# Altium footprint library praline.PcbLib: 57 footprints (part 2 of 4)
Each footprint in its own frame and in the unit in brackets; x right, y up, seen from the top. Pads: shape width x height; smd on the part's side, far side on the other; paste and mask are expansions set on the pad; w line width, h text height; cw(c..) or ccw(c..) is an arc to the next point about the centre after c.
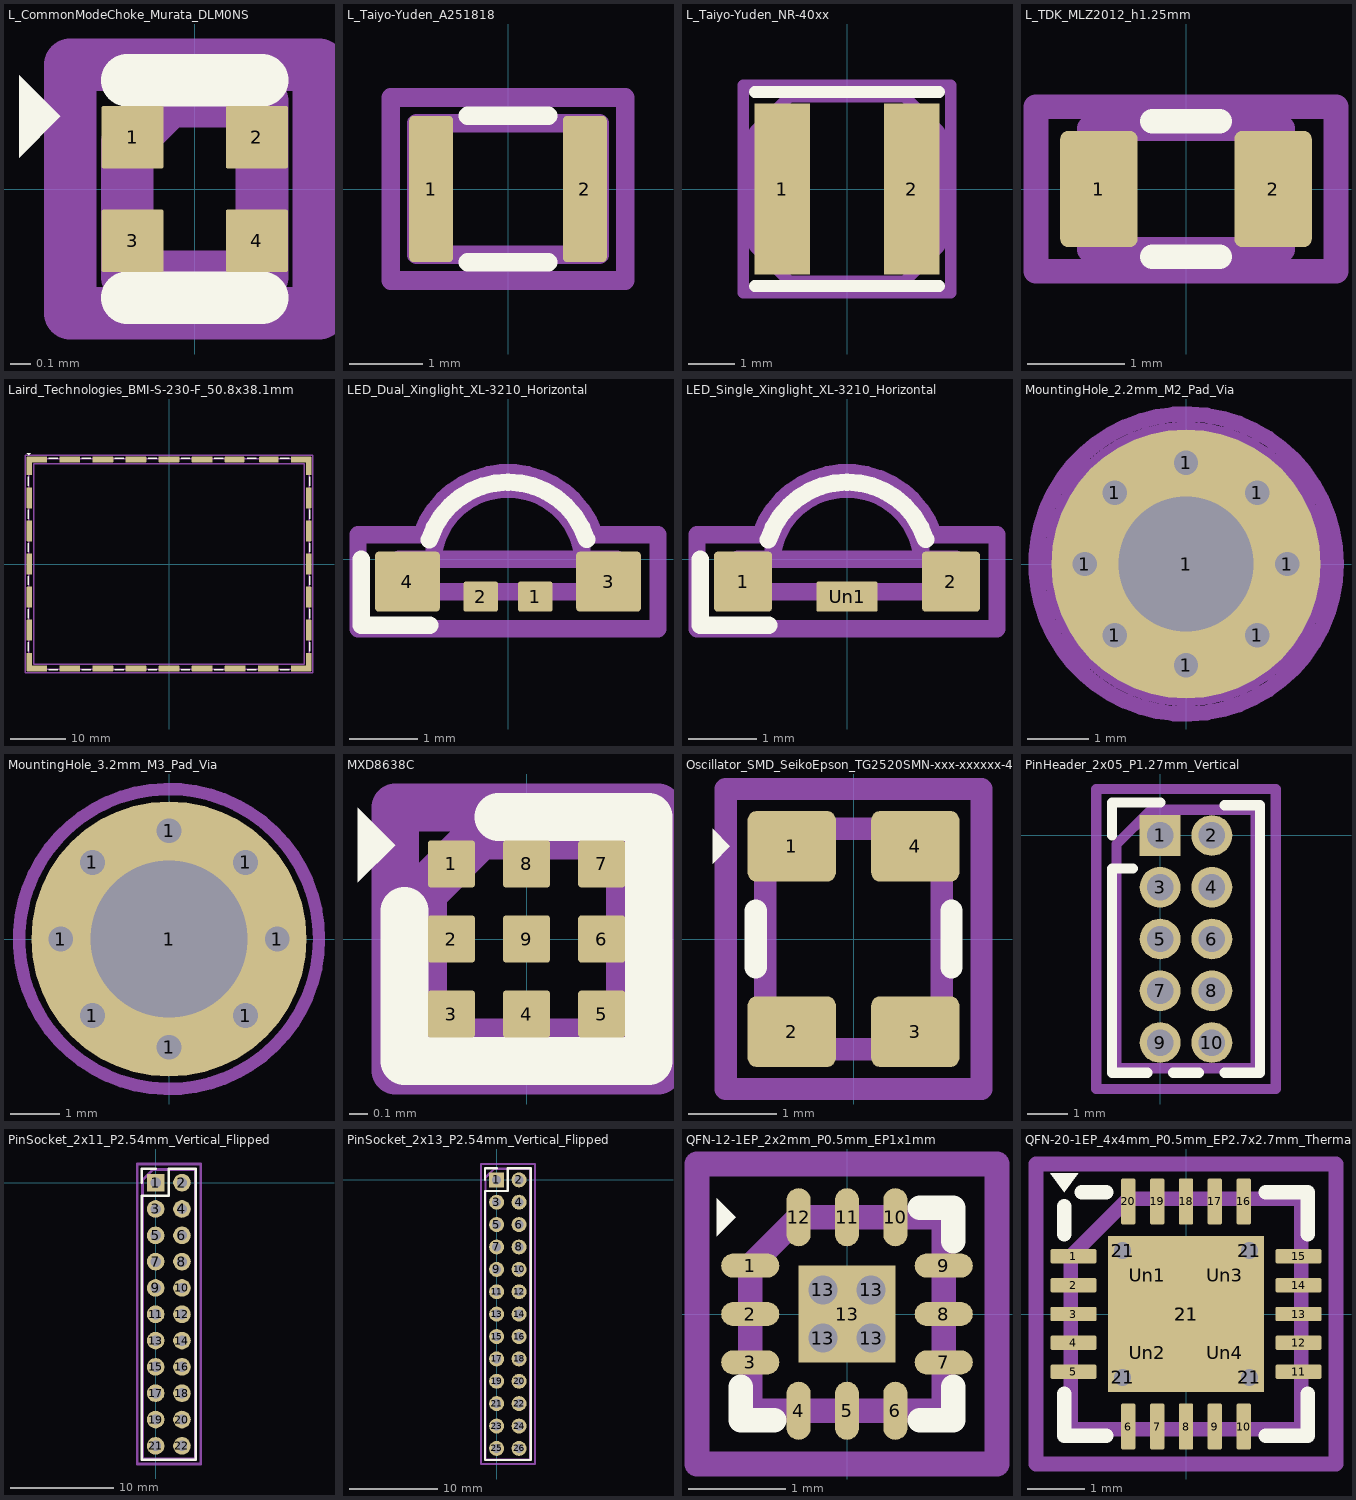
[diagram p1: the footprints below, top view; thin cyan lines are the x and y axes]

## L_CommonModeChoke_Murata_DLM0NS [mm]
pads (4):
  rrect5% 0.3x0.3 smd mask+0.05: 1(-0.3,0.25) 2(0.3,0.25) 3(-0.3,-0.25) 4(0.3,-0.25)
Top Overlay:
  region: -0.65,0.35 -0.848,0.152 -0.848,0.548
  lines w0.254: -0.325,-0.525 0.325,-0.525 ; -0.325,0.525 0.325,0.525
Mechanical 6:
  lines w0.254: -0.325,-0.425 -0.325,0.225 -0.125,0.425 0.325,0.425 0.325,-0.425 -0.325,-0.425
  text "'.Designator'" at -0.663,-0.317 h0.5
Mechanical 15:
  lines w0.254: -0.6,-0.6 0.6,-0.6 0.6,0.6 -0.6,0.6 -0.6,-0.6

## L_Taiyo-Yuden_A251818 [mm]
pads (2):
  rrect20% 0.6x2 smd mask+0.05: 1(-1.05,0) 2(1.05,0)
Top Overlay:
  lines w0.254: -0.55,-1 0.55,-1 ; -0.55,1 0.55,1
Mechanical 6:
  lines w0.254: -1.25,-0.9 1.25,-0.9 1.25,0.9 -1.25,0.9 -1.25,-0.9
  text "'.Designator'" at -0.39,-0.171 h0.62
Mechanical 15:
  lines w0.254: -1.6,-1.25 1.6,-1.25 1.6,1.25 -1.6,1.25 -1.6,-1.25

## L_Taiyo-Yuden_NR-40xx [mm]
pads (2):
  rect 1.2x3.7 smd mask+0.05: 1(-1.4,0) 2(1.4,0)
Top Overlay:
  lines w0.254: -2,-2.1 2,-2.1 ; -2,2.1 2,2.1
Mechanical 6:
  lines w0.254: -2,-1.25 -1.25,-2 1.25,-2 2,-1.25 2,1.25 1.25,2 -1.25,2 -2,1.25 -2,-1.25
  text "'.Designator'" at 0.628,0.273 h1
Mechanical 15:
  lines w0.254: -2.25,-2.25 2.25,-2.25 2.25,2.25 -2.25,2.25 -2.25,-2.25

## L_TDK_MLZ2012_h1.25mm [mm]
pads (2):
  rrect20% 0.8x1.2 smd mask+0.05: 1(-0.9,0) 2(0.9,0)
Top Overlay:
  lines w0.254: -0.35,-0.7 0.35,-0.7 ; -0.35,0.7 0.35,0.7
Mechanical 6:
  lines w0.254: -1,-0.625 1,-0.625 1,0.625 -1,0.625 -1,-0.625
  text "'.Designator'" at 0.195,0.138 h0.5
Mechanical 15:
  lines w0.254: -1.55,-0.85 1.55,-0.85 1.55,0.85 -1.55,0.85 -1.55,-0.85

## Laird_Technologies_BMI-S-230-F_50.8x38.1mm [mm]
pads (32):
  rrect12% 1x3.35 smd mask+0.05: 1(-25.3,-17.775) 1(-25.3,17.775) 1(25.3,-17.775) 1(25.3,17.775)
  rrect12% 1x3.8 smd mask+0.05: 1(-25.3,-12) 1(-25.3,-6) 1(-25.3,0) 1(-25.3,6) 1(-25.3,12) 1(25.3,-12) 1(25.3,-6) 1(25.3,0) 1(25.3,6) 1(25.3,12)
  rrect12% 3.7x1 smd mask+0.05: 1(-23.95,-18.95) 1(-23.95,18.95) 1(23.95,-18.95) 1(23.95,18.95)
  rrect12% 3.8x1 smd mask+0.05: 1(-18,-18.95) 1(-18,18.95) 1(-12,-18.95) 1(-12,18.95) 1(-6,-18.95) 1(-6,18.95) 1(0,-18.95) 1(0,18.95) 1(6,-18.95) 1(6,18.95) 1(12,-18.95) 1(18,-18.95)
  rrect12% 3.55x1 smd mask+0.05: 1(11.875,18.95) 1(18.125,18.95)
Top Overlay:
  region: -25.4,19.7 -25.754,20.054 -25.046,20.054
  lines w0.254: -25.55,-15.8 -25.55,-14.2 ; -25.55,-9.8 -25.55,-8.2 ; -25.55,-3.8 -25.55,-2.2 ; -25.55,2.2 -25.55,3.8 ; -25.55,8.2 -25.55,9.8 ; -25.55,14.2 -25.55,15.8 ; -21.8,-19.2 -20.2,-19.2 ; -21.8,19.2 -20.2,19.2 ; -15.8,-19.2 -14.2,-19.2 ; -15.8,19.2 -14.2,19.2 ; -9.8,-19.2 -8.2,-19.2 ; -9.8,19.2 -8.2,19.2 ; -3.8,-19.2 -2.2,-19.2 ; -3.8,19.2 -2.2,19.2 ; 2.2,-19.2 3.8,-19.2 ; 2.2,19.2 3.8,19.2 ; 8.2,-19.2 9.8,-19.2 ; 8.2,19.2 9.8,19.2 ; 14.2,-19.2 15.8,-19.2 ; 14.2,19.2 15.8,19.2 ; 20.2,-19.2 21.8,-19.2 ; 20.2,19.2 21.8,19.2 ; 25.55,-15.8 25.55,-14.2 ; 25.55,-9.8 25.55,-8.2 ; 25.55,-3.8 25.55,-2.2 ; 25.55,2.2 25.55,3.8 ; 25.55,8.2 25.55,9.8 ; 25.55,14.2 25.55,15.8
Mechanical 6:
  lines w0.254: -25.4,-19.05 -25.4,18.05 -24.4,19.05 25.4,19.05 25.4,-19.05 -25.4,-19.05
  text "'.Designator'" at -23.601,16.77 h1
Mechanical 15:
  lines w0.254: -26.05,-19.7 -26.05,19.7 26.05,19.7 26.05,-19.7 -26.05,-19.7 ; -24.55,-18.2 -24.55,18.2 24.55,18.2 24.55,-18.2 -24.55,-18.2

## LED_Dual_Xinglight_XL-3210_Horizontal [mm]
pads (4):
  rrect12% 0.5x0.44 smd mask+0.05: 1(0.4,-0.55) 2(-0.4,-0.55)
  rrect12% 0.95x0.88 smd mask+0.05: 3(1.475,-0.33) 4(-1.475,-0.33)
Top Overlay:
  lines w0.254: -2.15,0 -2.15,-0.97 -1.15,-0.97 ; -1.153,0.287 cw(c0,-0.08) 1.153,0.288
Mechanical 6:
  lines w0.254: -1.6,-0.13 -1.25,-0.48 ; -1.103,0 cw(c0,-0.08) 1.103,0 ; -1.6,-0.48 -1.6,0 1.6,0 1.6,-0.48 -1.6,-0.48
  text "'.Designator'" at -0.168,0.241 h0.4
Mechanical 15:
  lines w0.254: -2.2,-1.02 2.2,-1.02 2.2,0.36 1.27,0.36 ccw(c0,-0.071) -1.27,0.36 -2.2,0.36 -2.2,-1.02

## LED_Single_Xinglight_XL-3210_Horizontal [mm]
pads (3):
  rrect12% 0.85x0.88 smd mask+0.05: 1(-1.525,-0.33) 2(1.525,-0.33)
  rrect12% 0.9x0.44 smd mask+0.05: Un1(0,-0.55)
Top Overlay:
  lines w0.254: -2.15,0 -2.15,-0.97 -1.15,-0.97 ; -1.153,0.287 cw(c0,-0.08) 1.153,0.288
Mechanical 6:
  lines w0.254: -1.6,-0.13 -1.25,-0.48 ; -1.103,0 cw(c0,-0.08) 1.103,0 ; -1.6,-0.48 -1.6,0 1.6,0 1.6,-0.48 -1.6,-0.48
  text "'.Designator'" at -0.169,0.24 h0.4
Mechanical 15:
  lines w0.254: -2.2,-1.02 2.2,-1.02 2.2,0.36 1.27,0.36 ccw(c0,-0.071) -1.27,0.36 -2.2,0.36 -2.2,-1.02

## MountingHole_2.2mm_M2_Pad_Via [mm]
pads (9):
  round 0.7 hole 0.4 mask+0.05: 1(-1.65,0) 1(-1.167,-1.167) 1(-1.167,1.167) 1(0,-1.65) 1(0,1.65) 1(1.167,-1.167) 1(1.167,1.167) 1(1.65,0)
  round 4.4 hole 2.2 mask+0.05: 1(0,0)
Mechanical 6:
  text "'.Designator'" at -0.425,-0.276 h1
Mechanical 9:
  circle w0.254: c0,0 r2.2
Mechanical 15:
  circle w0.254: c0,0 r2.45

## MountingHole_3.2mm_M3_Pad_Via [mm]
pads (9):
  round 0.8 hole 0.5 mask+0.05: 1(-2.2,0) 1(-1.556,-1.556) 1(-1.556,1.556) 1(0,-2.2) 1(0,2.2) 1(1.556,-1.556) 1(1.556,1.556) 1(2.2,0)
  round 5.6 hole 3.2 mask+0.05: 1(0,0)
Mechanical 6:
  text "'.Designator'" at -0.419,-0.273 h1
Mechanical 15:
  circle w0.254: c0,0 r3.05

## MXD8638C [mm]
pads (9):
  rrect12% 0.25x0.25 smd mask+0.05: 1(-0.4,0.4) 2(-0.4,0) 3(-0.4,-0.4) 4(0,-0.4) 5(0.4,-0.4) 6(0.4,0) 7(0.4,0.4) 8(0,0.4) 9(0,0)
Top Overlay:
  region: -0.7,0.5 -0.898,0.302 -0.898,0.698
  lines w0.254: -0.65,0.15 -0.65,-0.65 0.65,-0.65 0.65,0.65 -0.15,0.65
Mechanical 6:
  lines w0.254: -0.55,-0.55 -0.55,0.25 -0.25,0.55 0.55,0.55 0.55,-0.55 -0.55,-0.55
  text "'.Designator'" at 0.069,-0.168 h0.25
Mechanical 15:
  lines w0.254: -0.7,-0.7 -0.7,0.7 0.7,0.7 0.7,-0.7 -0.7,-0.7

## Oscillator_SMD_SeikoEpson_TG2520SMN-xxx-xxxxxx-4Pin_2.5x2.0mm [mm]
pads (4):
  rrect25% 1x0.8 smd mask+0.05: 1(-0.7,1.05) 2(-0.7,-1.05) 3(0.7,-1.05) 4(0.7,1.05)
Top Overlay:
  region: -1.4,1.05 -1.598,0.852 -1.598,1.248
  lines w0.254: -1.11,-0.32 -1.11,0.32 ; 1.11,-0.32 1.11,0.32
Mechanical 6:
  lines w0.254: -1,-1.25 -1,0.75 -0.5,1.25 1,1.25 1,-1.25 -1,-1.25
  text "'.Designator'" at -0.137,0.219 h0.5
Mechanical 15:
  lines w0.254: -1.45,-1.7 -1.45,1.7 1.45,1.7 1.45,-1.7 -1.45,-1.7

## PinHeader_2x05_P1.27mm_Vertical [mm]
pads (10):
  rect 1x1 hole 0.65 mask+0.05: 1(0,0)
  round 1 hole 0.65 mask+0.05: 2(1.27,0) 3(0,-1.27) 4(1.27,-1.27) 5(0,-2.54) 6(1.27,-2.54) 7(0,-3.81) 8(1.27,-3.81) 9(0,-5.08) 10(1.27,-5.08)
Top Overlay:
  lines w0.254: -1.18,0 -1.18,0.81 0,0.81 ; -0.667,-0.81 -1.18,-0.81 -1.18,-5.825 -0.318,-5.825 ; 0.318,-5.825 0.952,-5.825 ; 1.588,-5.825 2.45,-5.825 2.45,0.745 1.588,0.745
Mechanical 6:
  lines w0.254: -1.07,-5.715 -1.07,-0.218 -0.218,0.635 2.34,0.635 2.34,-5.715 -1.07,-5.715
  text "'.Designator'" at 0.915,-3.189 h1
Mechanical 15:
  lines w0.254: -1.57,-6.22 -1.57,1.14 2.84,1.14 2.84,-6.22 -1.57,-6.22

## PinSocket_2x11_P2.54mm_Vertical_Flipped [mm]
pads (22):
  rect 1.7x1.7 hole 1 mask+0.05: 1(0,0)
  round 1.7 hole 1 mask+0.05: 2(2.54,0) 3(0,-2.54) 4(2.54,-2.54) 5(0,-5.08) 6(2.54,-5.08) 7(0,-7.62) 8(2.54,-7.62) 9(0,-10.16) 10(2.54,-10.16) 11(0,-12.7) 12(2.54,-12.7) 13(0,-15.24) 14(2.54,-15.24) 15(0,-17.78) 16(2.54,-17.78) 17(0,-20.32) 18(2.54,-20.32) 19(0,-22.86) 20(2.54,-22.86) 21(0,-25.4) 22(2.54,-25.4)
Top Overlay:
  lines w0.254: -1.33,0 -1.33,1.33 0,1.33 ; -1.33,-26.73 3.87,-26.73 3.87,1.33 1.27,1.33 1.27,-1.27 -1.33,-1.27 -1.33,-26.73
Mechanical 6:
  lines w0.254: -1.27,-26.67 3.81,-26.67 3.81,1.27 -0.27,1.27 -1.27,0.27 -1.27,-26.67
  text "'.Designator'" at 0.99,-12.054 h1
Mechanical 15:
  lines w0.254: -1.76,-27.15 4.34,-27.15 4.34,1.8 -1.76,1.8 -1.76,-27.15

## PinSocket_2x13_P2.54mm_Vertical_Flipped [mm]
pads (26):
  rect 1.7x1.7 hole 1 mask+0.05: 1(0,0)
  round 1.7 hole 1 mask+0.05: 2(2.54,0) 3(0,-2.54) 4(2.54,-2.54) 5(0,-5.08) 6(2.54,-5.08) 7(0,-7.62) 8(2.54,-7.62) 9(0,-10.16) 10(2.54,-10.16) 11(0,-12.7) 12(2.54,-12.7) 13(0,-15.24) 14(2.54,-15.24) 15(0,-17.78) 16(2.54,-17.78) 17(0,-20.32) 18(2.54,-20.32) 19(0,-22.86) 20(2.54,-22.86) 21(0,-25.4) 22(2.54,-25.4) 23(0,-27.94) 24(2.54,-27.94) 25(0,-30.48) 26(2.54,-30.48)
Top Overlay:
  lines w0.254: -1.33,0 -1.33,1.33 0,1.33 ; -1.33,-31.81 3.87,-31.81 3.87,1.33 1.27,1.33 1.27,-1.27 -1.33,-1.27 -1.33,-31.81
Mechanical 6:
  lines w0.254: -1.27,-31.75 3.81,-31.75 3.81,1.27 -0.27,1.27 -1.27,0.27 -1.27,-31.75
  text "'.Designator'" at 1.546,-15.886 h1
Mechanical 15:
  lines w0.254: -1.76,-32.25 -1.76,1.8 4.34,1.8 4.34,-32.25 -1.76,-32.25

## QFN-12-1EP_2x2mm_P0.5mm_EP1x1mm [mm]
pads (17):
  rrect100% 0.6x0.25 smd mask+0.05: 1(-1,0.5) 2(-1,0) 3(-1,-0.5) 7(1,-0.5) 8(1,0) 9(1,0.5)
  rrect100% 0.25x0.6 smd mask+0.05: 4(-0.5,-1) 5(0,-1) 6(0.5,-1) 10(0.5,1) 11(0,1) 12(-0.5,1)
  round 0.4 hole 0.3 mask+0.05: 13(-0.25,-0.25) 13(-0.25,0.25) 13(0.25,-0.25) 13(0.25,0.25)
  rect 1x1 smd mask+0.05: 13(0,0)
Top Overlay:
  region: -1.15,1 -1.348,0.802 -1.348,1.198
  lines w0.254: -1.1,-0.75 -1.1,-1.1 -0.75,-1.1 ; 0.75,-1.1 1.1,-1.1 1.1,-0.75 ; 0.75,1.1 1.1,1.1 1.1,0.75
Mechanical 6:
  lines w0.254: -1,-1 1,-1 1,1 -0.5,1 -1,0.5 -1,-1
  text "'.Designator'" at -0.14,0.211 h0.5
Mechanical 15:
  lines w0.254: -1.55,-1.55 -1.55,1.55 1.55,1.55 1.55,-1.55 -1.55,-1.55

## QFN-20-1EP_4x4mm_P0.5mm_EP2.7x2.7mm_ThermalVias [mm]
pads (30):
  rrect25% 0.8x0.25 smd mask+0.05: 1(-1.95,1) 2(-1.95,0.5) 3(-1.95,0) 4(-1.95,-0.5) 5(-1.95,-1) 11(1.95,-1) 12(1.95,-0.5) 13(1.95,0) 14(1.95,0.5) 15(1.95,1)
  rrect25% 0.25x0.8 smd mask+0.05: 6(-1,-1.95) 7(-0.5,-1.95) 8(0,-1.95) 9(0.5,-1.95) 10(1,-1.95) 16(1,1.95) 17(0.5,1.95) 18(0,1.95) 19(-0.5,1.95) 20(-1,1.95)
  round 0.5 hole 0.3 mask+0.05: 21(-1.1,-1.1) 21(-1.1,1.1) 21(1.1,-1.1) 21(1.1,1.1)
  rect 2.7x2.7 smd paste-2.7 mask+0.05: 21(0,0)
  rect 2.7x2.7 smd far side paste-2.7 mask-2.7: 21(0,0)
  rrect50% 1.17x1.17 on Top Paste mask-1.17: Un1(-0.675,0.675) Un2(-0.675,-0.675) Un3(0.675,0.675) Un4(0.675,-0.675)
Top Overlay:
  region: -2.11,2.11 -2.35,2.44 -1.87,2.44
  lines w0.254: -2.11,-1.385 -2.11,-2.11 -1.385,-2.11 ; -2.11,1.385 -2.11,1.87 ; -1.81,2.11 -1.385,2.11 ; 1.385,-2.11 2.11,-2.11 2.11,-1.385 ; 1.385,2.11 2.11,2.11 2.11,1.385
Mechanical 6:
  lines w0.254: -2,-2 2,-2 2,2 -1,2 -2,1 -2,-2
  text "'.Designator'" at -0.28,0.655 h1
Mechanical 15:
  lines w0.254: -2.6,-2.6 -2.6,2.6 2.6,2.6 2.6,-2.6 -2.6,-2.6